# Altium schematic symbol library FPGA Interface Board.SCHLIB: 37 symbols
Pins are listed as number, name and electrical type; pins without a type are passive.

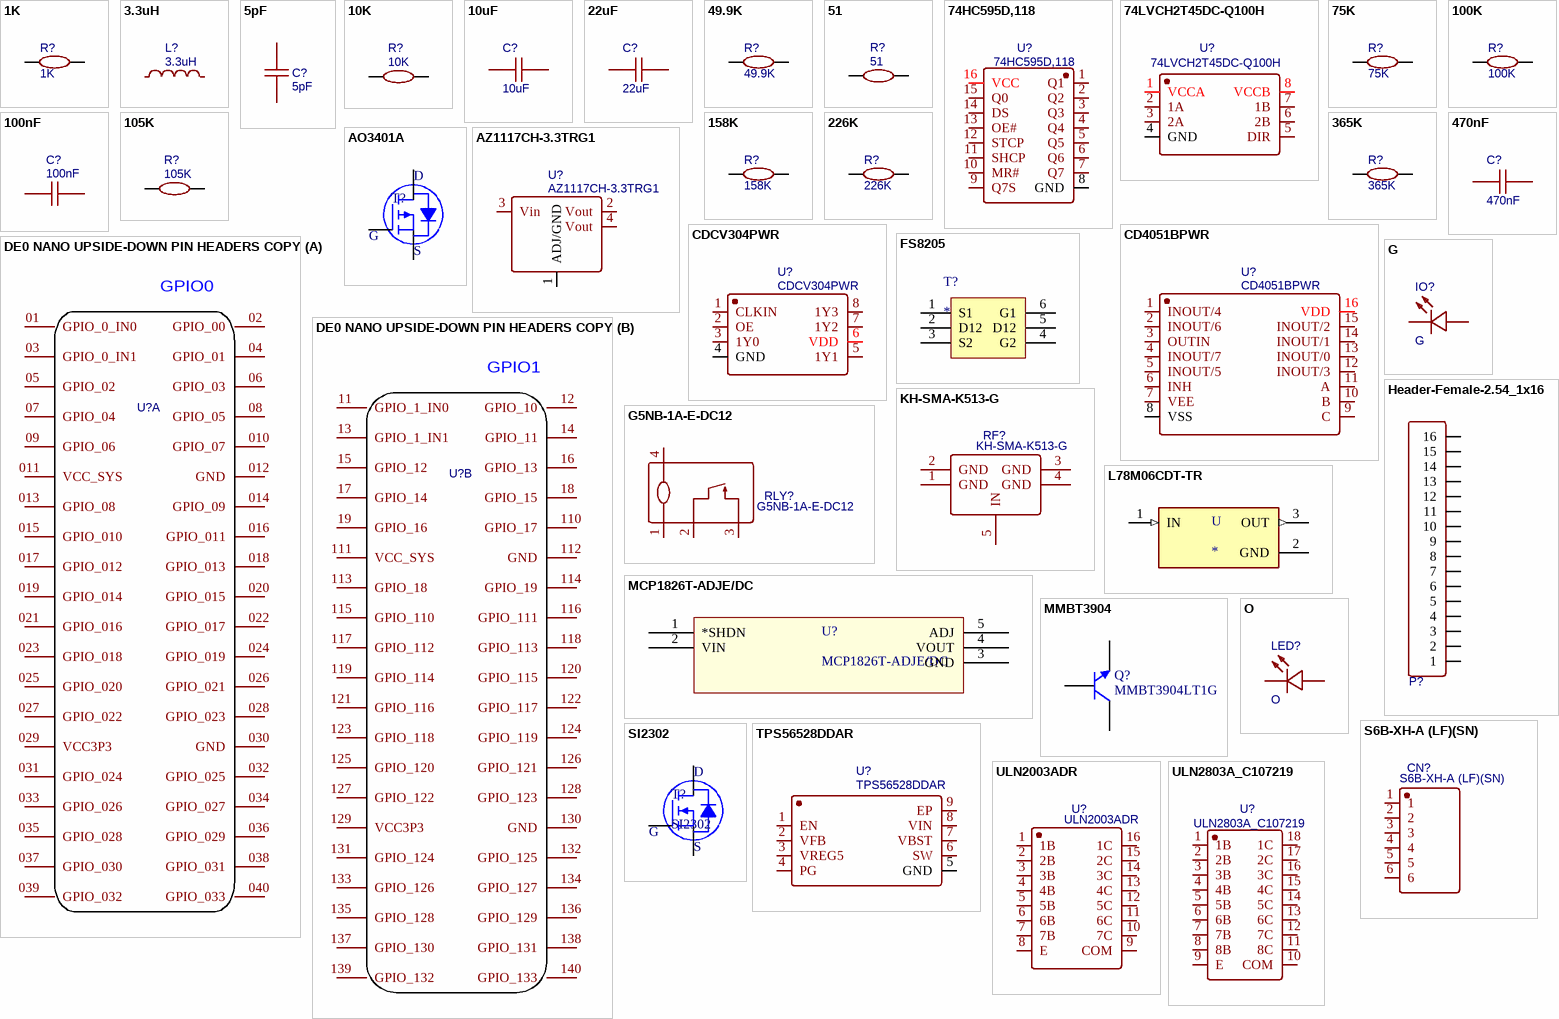
[diagram p0: symbols 1K to ULN2803A_C107219]

## 1K
designator R?
Manufacture Part Number: RC0603FR-071KL; Manufacturer: YAGEO; nameAlias: Resistance (Ohms); Supplier: LCSC; Supplier Part Number: C22548; spicePre: R; spiceSymbolName: RC0603FR-071KL
footprint R0603
pins: 1, 2

## 3.3uH
designator L?
Manufacturer: SXN; Manufacture Part Number: SMMS1040-3R3M; nameAlias: Inductance; Contributor: LCSC; Supplier: LCSC; Supplier Part Number: C149592; spicePre: L; spiceSymbolName: SMMS1040-3R3M
footprint IND-SMD_L11.5-W10.0_SMMS1040
pins: 1, 2

## 5pF
designator C?
Manufacturer: Samsung Electro-Mechanics; Manufacture Part Number: CL10C050CB8NNNC; nameAlias: Capacitance; Contributor: LCSC; SMT Type: Extend; Supplier: LCSC; Supplier Part Number: C93045; BOM_LCSC Assembly: Yes; spicePre: C; spiceSymbolName: CL10C050CB8NNNC
footprint C0603
pins: 1, 2

## 10K
designator R?
Manufacturer: YAGEO; Manufacture Part Number: RC0603FR-0710KL; nameAlias: Resistance (Ohms); Supplier: LCSC; Supplier Part Number: C98220; spicePre: R; spiceSymbolName: RC0603FR-0710KL
footprint R0603
pins: 1, 2

## 10uF
designator C?
Manufacturer: SAMSUNG; Manufacture Part Number: CL21B106KOQNNNE; nameAlias: Capacitance; Supplier: LCSC; Supplier Part Number: C95841; spicePre: C; spiceSymbolName: CL21B106KOQNNNE
footprint C0805
pins: 1, 2

## 22uF
designator C?
Manufacturer: SAMSUNG; Manufacture Part Number: CL10A226MP8NUNE; nameAlias: Capacitance; SMT Type: Extend; Supplier: LCSC; Supplier Part Number: C86295; BOM_LCSC Assembly: Yes; spicePre: C; spiceSymbolName: CL10A226MP8NUNE
footprint C0603
pins: 1, 2

## 49.9K
designator R?
Manufacturer: UniOhm; Manufacture Part Number: 0603WAF4992T5E; nameAlias: Resistance (Ohms); SMT Type: Basic; Supplier: LCSC; BOM_LCSC Assembly: Yes; Supplier Part Number: C23184; spicePre: R; spiceSymbolName: 0603WAF4992T5E
footprint R0603
pins: 1, 2

## 51
designator R?
Manufacturer: UniOhm; Manufacture Part Number: 0603WAF510JT5E; nameAlias: Resistance (Ohms); SMT Type: Basic; Supplier: LCSC; BOM_LCSC Assembly: Yes; Supplier Part Number: C23197; spicePre: R; spiceSymbolName: 0603WAF510JT5E
footprint R0603
pins: 1, 2

## 74HC595D,118
designator U?
Manufacturer: Nexperia; SMT Type: Basic; spicePre: X; Supplier: LCSC; Manufacture Part Number: 74HC595D,118; BOM_LCSC Assembly: Yes; image: //image.lceda.cn/szlcsc/C5947.jpg; Supplier Part Number: C5947; spiceSymbolName: 74HC595D,118
footprint SOIC-16_L9.9-W3.9-P1.27-LS6.0-BL
pins: 1 Q1, 2 Q2, 3 Q3, 4 Q4, 5 Q5, 6 Q6, 7 Q7, 8 GND, 9 Q7S, 10 MR#, 11 SHCP, 12 STCP, 13 OE#, 14 DS, 15 Q0, 16 VCC

## 74LVCH2T45DC-Q100H
designator U?
Manufacturer: Nexperia; Contributor: LCSC; SMT Type: Extend; Supplier: LCSC; Manufacture Part Number: 74LVCH2T45DC-Q100H; Supplier Part Number: C116382; BOM_LCSC Assembly: Yes; spicePre: U; spiceSymbolName: 74LVCH2T45DC-Q100H
footprint VSSOP-8_L2.4-W2.1-P0.50-LS3.2-BR
pins: 1 VCCA, 2 1A, 3 2A, 4 GND, 5 DIR, 6 2B, 7 1B, 8 VCCB

## 75K
designator R?
Manufacturer: UniOhm; Manufacture Part Number: 0603WAF7502T5E; nameAlias: Resistance (Ohms); SMT Type: Basic; Supplier: LCSC; BOM_LCSC Assembly: Yes; Supplier Part Number: C23242; spicePre: R; spiceSymbolName: 0603WAF7502T5E
footprint R0603
pins: 1, 2

## 100K
designator R?
Manufacturer: UniOhm; Manufacture Part Number: 0603WAF1003T5E; nameAlias: Resistance (Ohms); SMT Type: Basic; Supplier: LCSC; BOM_LCSC Assembly: Yes; Supplier Part Number: C25803; spicePre: R; spiceSymbolName: 0603WAF1003T5E
footprint R0603
pins: 1, 2

## 100nF
designator C?
Manufacturer: YAGEO; Manufacture Part Number: CC0603KRX7R9BB104; nameAlias: Capacitance; SMT Type: Basic; Supplier: LCSC; BOM_LCSC Assembly: Yes; Supplier Part Number: C14663; spicePre: C; spiceSymbolName: CC0603KRX7R9BB104
footprint C0603
pins: 1, 2

## 105K
designator R?
Manufacturer: UniOhm; Manufacture Part Number: 0603WAF1053T5E; nameAlias: Resistance (Ohms); SMT Type: Extend; Supplier: LCSC; Supplier Part Number: C16840; BOM_LCSC Assembly: Yes; spicePre: R; spiceSymbolName: 0603WAF1053T5E
footprint R0603
pins: 1, 2

## 158K
designator R?
Manufacturer: UniOhm; Manufacture Part Number: 0603WAF1583T5E; nameAlias: Resistance (Ohms); SMT Type: Extend; Supplier: LCSC; Supplier Part Number: C22883; BOM_LCSC Assembly: Yes; spicePre: R; spiceSymbolName: 0603WAF1583T5E
footprint R0603
pins: 1, 2

## 226K
designator R?
Manufacturer: UniOhm; Manufacture Part Number: 0603WAF2263T5E; nameAlias: Resistance (Ohms); SMT Type: Extend; Supplier: LCSC; Supplier Part Number: C33619; BOM_LCSC Assembly: Yes; spicePre: R; spiceSymbolName: 0603WAF2263T5E
footprint R0603
pins: 1, 2

## 365K
designator R?
Manufacturer: UniOhm; Manufacture Part Number: 0603WAF3653T5E; nameAlias: Resistance (Ohms); SMT Type: Extend; Supplier: LCSC; Supplier Part Number: C23031; BOM_LCSC Assembly: Yes; spicePre: R; spiceSymbolName: 0603WAF3653T5E
footprint R0603
pins: 1, 2

## 470nF
designator C?
Manufacturer: Samsung Electro-Mechanics; Manufacture Part Number: CL10F474ZO8NNNC; nameAlias: Capacitance; Contributor: LCSC; Supplier: LCSC; Supplier Part Number: C318652; spicePre: C; spiceSymbolName: CL10F474ZO8NNNC
footprint C0603
pins: 1, 2

## AO3401A
designator T?
footprint SOT-23-3
pins: 1 G, 2 D, 2 D, 3 S

## AZ1117CH-3.3TRG1
designator U?
Manufacturer: DIODES; SMT Type: Extend; Supplier: LCSC; Manufacture Part Number: AZ1117CH-3.3TRG1; Supplier Part Number: C92102; BOM_LCSC Assembly: Yes; spicePre: U; spiceSymbolName: AZ1117CH-3.3TRG1
footprint SOT-223-3_L6.5-W3.4-P2.30-LS7.0-BR
pins: 1 ADJ/GND, 2 Vout, 3 Vin, 4 Vout

## CD4051BPWR
designator U?
Manufacturer: TI; SMT Type: Extend; Supplier: LCSC; Manufacture Part Number: CD4051BPWR; Supplier Part Number: C54587; BOM_LCSC Assembly: Yes; spicePre: U; spiceSymbolName: CD4051BPWR
footprint TSSOP-16_L5.0-W4.4-P0.65-LS6.4-BL
pins: 1 INOUT/4, 2 INOUT/6, 3 OUTIN, 4 INOUT/7, 5 INOUT/5, 6 INH, 7 VEE, 8 VSS, 9 C, 10 B, 11 A, 12 INOUT/3, 13 INOUT/0, 14 INOUT/1, 15 INOUT/2, 16 VDD

## CDCV304PWR
designator U?
Manufacturer: TI; SMT Type: Extend; Supplier: LCSC; Manufacture Part Number: CDCV304PWR; Supplier Part Number: C105237; BOM_LCSC Assembly: Yes; spicePre: U; spiceSymbolName: CDCV304PWR
footprint TSSOP-8_L4.4-W3.0-P0.65-LS6.4-BL
pins: 1 CLKIN, 2 OE, 3 1Y0, 4 GND, 5 1Y1, 6 VDD, 7 1Y2, 8 1Y3

## DE0 NANO UPSIDE-DOWN PIN HEADERS COPY
designator U?  (value not drawn)
subpart_no: 1; Contributor: cemasoniv; spicePre: U; spiceSymbolName: DE0 NANO UPSIDE-DOWN PIN HEADERS COPY
footprint DE0-NANO UPSIDE DOWN
part A pins: 01 GPIO_0_IN0, 02 GPIO_00, 03 GPIO_0_IN1, 04 GPIO_01, 05 GPIO_02, 06 GPIO_03, 07 GPIO_04, 08 GPIO_05, 09 GPIO_06, 010 GPIO_07, 011 VCC_SYS, 012 GND, 013 GPIO_08, 014 GPIO_09, 015 GPIO_010, 016 GPIO_011, 017 GPIO_012, 018 GPIO_013, 019 GPIO_014, 020 GPIO_015, 021 GPIO_016, 022 GPIO_017, 023 GPIO_018, 024 GPIO_019, 025 GPIO_020, 026 GPIO_021, 027 GPIO_022, 028 GPIO_023, 029 VCC3P3, 030 GND, 031 GPIO_024, 032 GPIO_025, 033 GPIO_026, 034 GPIO_027, 035 GPIO_028, 036 GPIO_029, 037 GPIO_030, 038 GPIO_031, 039 GPIO_032, 040 GPIO_033
part B pins: 11 GPIO_1_IN0, 12 GPIO_10, 13 GPIO_1_IN1, 14 GPIO_11, 15 GPIO_12, 16 GPIO_13, 17 GPIO_14, 18 GPIO_15, 19 GPIO_16, 110 GPIO_17, 111 VCC_SYS, 112 GND, 113 GPIO_18, 114 GPIO_19, 115 GPIO_110, 116 GPIO_111, 117 GPIO_112, 118 GPIO_113, 119 GPIO_114, 120 GPIO_115, 121 GPIO_116, 122 GPIO_117, 123 GPIO_118, 124 GPIO_119, 125 GPIO_120, 126 GPIO_121, 127 GPIO_122, 128 GPIO_123, 129 VCC3P3, 130 GND, 131 GPIO_124, 132 GPIO_125, 133 GPIO_126, 134 GPIO_127, 135 GPIO_128, 136 GPIO_129, 137 GPIO_130, 138 GPIO_131, 139 GPIO_132, 140 GPIO_133
part A text: GPIO0
part B text: GPIO1

## FS8205
designator T?
footprint SOT-23-6
pins: 1 S1, 2 D12, 3 S2, 4 G2, 5 D12, 6 G1

## G
designator IO?
Manufacturer: Orient; Manufacture Part Number: ORH-G36G; Contributor: LCSC; SMT Type: Extend; Supplier: LCSC; Supplier Part Number: C205443; BOM_LCSC Assembly: Yes; spicePre: L; spiceSymbolName: ORH-G36G
footprint LED0603-R-RD
pins: 1 A, 2 K

## G5NB-1A-E-DC12
designator RLY?
Manufacturer: Omron Electronics; Contributor: LCSC; Supplier: LCSC; Supplier Part Number: C225714; Manufacture Part Number: G5NB-1A-E-DC12; spicePre: R; spiceSymbolName: G5NB-1A-E-DC12
footprint RELAY-TH_G5NB-1A-E-DCXX
pins: 1, 2, 3, 4

## Header-Female-2.54_1x16
designator P?  (value not drawn)
Manufacturer: BOOMELE; Manufacture Part Number: Female header1*16P pitch 2.54mm; Supplier: LCSC; image: //image.lceda.cn/szlcsc/C66987.jpg; Supplier Part Number: C66987; spicePre: P; spiceSymbolName: Header-Female-2.54_1x16
footprint HDR-TH_16P-P2.54-V
pins: 1, 2, 3, 4, 5, 6, 7, 8, 9, 10, 11, 12, 13, 14, 15, 16

## KH-SMA-K513-G
designator RF?
Manufacturer: Shenzhen Kinghelm Elec; Contributor: LCSC; Supplier: LCSC; Supplier Part Number: C411575; Manufacture Part Number: KH-SMA-K513-G; spicePre: R; spiceSymbolName: KH-SMA-K513-G
footprint ANT-TH_KH-SMA-K513-G
pins: 1 GND, 2 GND, 3 GND, 4 GND, 5 IN

## L78M06CDT-TR
designator U
Linear Voltage Regulator IC 1 Output 500mA DPAK; Manufacture Part Number: L78M06CDT-TR; Manufacturer: STMicroelectronics; Price: None; Availability: Unavailable; SnapEDA_Link: https://www.snapeda.com/parts/L78M06CDT-TR/STMicroelectronics/view-part/276899/?ref=snap; Package: TO-252 STMicroelectronics; Supplier: LCSC; Supplier Part Number: C157444
footprint VREG_L78M06CDT-TR
pins: 1 IN (in), 2 GND (power), 3 OUT (out)

## MCP1826T-ADJE/DC
designator U?
Adjustable 6V 0.8V ~ 5V 400mV @ 1A SOT-223-6 Dropout Regulators(LDO) RoHS; Manufacturer: Microchip Tech; Manufacture Part Number: MCP1826T-ADJE/DC; Supplier Part Number: C147898; Supplier: LCSC
footprint MCP1826T-ADJE/DC (Adjustable 6V 0.8V ~ 5V 400mV @ 1A SOT-223-6 Dropout Regulators(LDO) RoHS)
pins: 1 *SHDN, 2 VIN, 3 GND, 4 VOUT, 5 ADJ

## MMBT3904
designator Q?, comment MMBT3904LT1G
MMBT Series 40 V 200 mA SMT NPN Silicon General Purpose Transistor - SOT-23; Manufacturer: ON Semiconductor; Supplier Part Number: C81464; Supplier: LCSC; Manufacture Part Number: MMBT3904LT1G
footprint SOT-23-3
pins: 1 B, 2 C, 3 E

## O
designator LED?
Manufacturer: Orient; Manufacture Part Number: ORH-R36A(0.6T); Contributor: LCSC; SMT Type: Extend; Supplier: LCSC; Supplier Part Number: C205445; BOM_LCSC Assembly: Yes; spicePre: L; spiceSymbolName: ORH-R36A(0.6T)
footprint LED0603-R-RD
pins: 1 A, 2 K

## S6B-XH-A (LF)(SN)
designator CN?
Manufacturer: JST Sales America; Contributor: LCSC; Supplier: LCSC; Supplier Part Number: C157919; Manufacture Part Number: -; spicePre: C; spiceSymbolName: S6B-XH-A (LF)(SN)
footprint CONN-TH_S6B-XH-A (LF)(SN)
pins: 1, 2, 3, 4, 5, 6

## SI2302
designator T?
/ MOSFET N TRENCH 20V 2.1A 1.2V @ 50UA 72 M? @ 3.6A,4.5V SOT-23(SOT-23-3) ROHS
footprint SOT-23-3
pins: 1 G, 2 D, 3 S

## TPS56528DDAR
designator U?
Manufacturer: Texas Instruments; Contributor: LCSC; SMT Type: Extend; Supplier: LCSC; Supplier Part Number: C138716; Manufacture Part Number: TPS56528DDAR; BOM_LCSC Assembly: Yes; spicePre: U; spiceSymbolName: TPS56528DDAR
footprint SOIC-8_L4.9-W3.9-P1.27-LS6.0-BL-EP
pins: 1 EN, 2 VFB, 3 VREG5, 4 PG, 5 GND, 6 SW, 7 VBST, 8 VIN, 9 EP

## ULN2003ADR
designator U?
Manufacturer: TI; SMT Type: Basic; spicePre: X; Supplier: LCSC; Manufacture Part Number: ULN2003ADR; image: //image.lceda.cn/szlcsc/C7512.jpg; Supplier Part Number: C7512; BOM_LCSC Assembly: Yes; spiceSymbolName: ULN2003ADR
footprint SOIC-16_L9.9-W3.9-P1.27-LS6.0-BL
pins: 1 1B, 2 2B, 3 3B, 4 4B, 5 5B, 6 6B, 7 7B, 8 E, 9 COM, 10 7C, 11 6C, 12 5C, 13 4C, 14 3C, 15 2C, 16 1C

## ULN2803A_C107219
designator U?
Manufacturer: MIXIC; SMT Type: Extend; Supplier: LCSC; Manufacture Part Number: ULN2803A; Supplier Part Number: C107219; BOM_LCSC Assembly: Yes; spicePre: U; spiceSymbolName: ULN2803A_C107219
footprint SOP-18_L11.4-W7.6-P1.27-LS10.6-BL
pins: 1 1B, 2 2B, 3 3B, 4 4B, 5 5B, 6 6B, 7 7B, 8 8B, 9 E, 10 COM, 11 8C, 12 7C, 13 6C, 14 5C, 15 4C, 16 3C, 17 2C, 18 1C